# Altium schematic symbol library USB4215-03-A.SchLib: 1 symbol
Pins are listed as number, name and electrical type; pins without a type are passive.

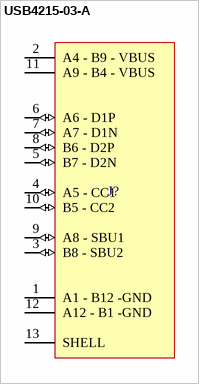
[diagram p0: symbol USB4215-03-A]

## USB4215-03-A
designator J?
USB Connectors USB C Receptacle, USB2.0, 16Pin, Horizontal
pins: 1 A1 - B12 -GND (power), 2 A4 - B9 - VBUS (power), 3 B8 - SBU2 (io), 4 A5 - CC1 (io), 5 B7 - D2N (io), 6 A6 - D1P (io), 7 A7 - D1N (io), 8 B6 - D2P (io), 9 A8 - SBU1 (io), 10 B5 - CC2 (io), 11 A9 - B4 - VBUS (power), 12 A12 - B1 -GND (power), 13 SHELL (power)